# Altium schematic symbol library 1278ER1T VP.Schlib: 1 symbol
Pins are listed as number, name and electrical type; pins without a type are passive.

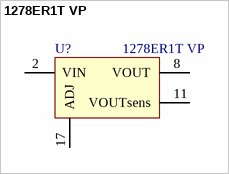
[diagram p0: symbol 1278ER1T VP]

## 1278ER1T VP
designator U?
Назначение: Линейный регулятор; Наименование: 1278ЕР1Т "ВП"
footprint 1278ЕР1Т - БУ
pins: 2 VIN, 8 VOUT, 11 VOUTsens, 17 ADJ